# Altium footprint library myLIB.PcbLib: 144 footprints (part 3 of 9)
Each footprint in its own frame and in the unit in brackets; x right, y up, seen from the top. Pads: shape width x height; smd on the part's side, far side on the other; paste and mask are expansions set on the pad; w line width, h text height; cw(c..) or ccw(c..) is an arc to the next point about the centre after c.
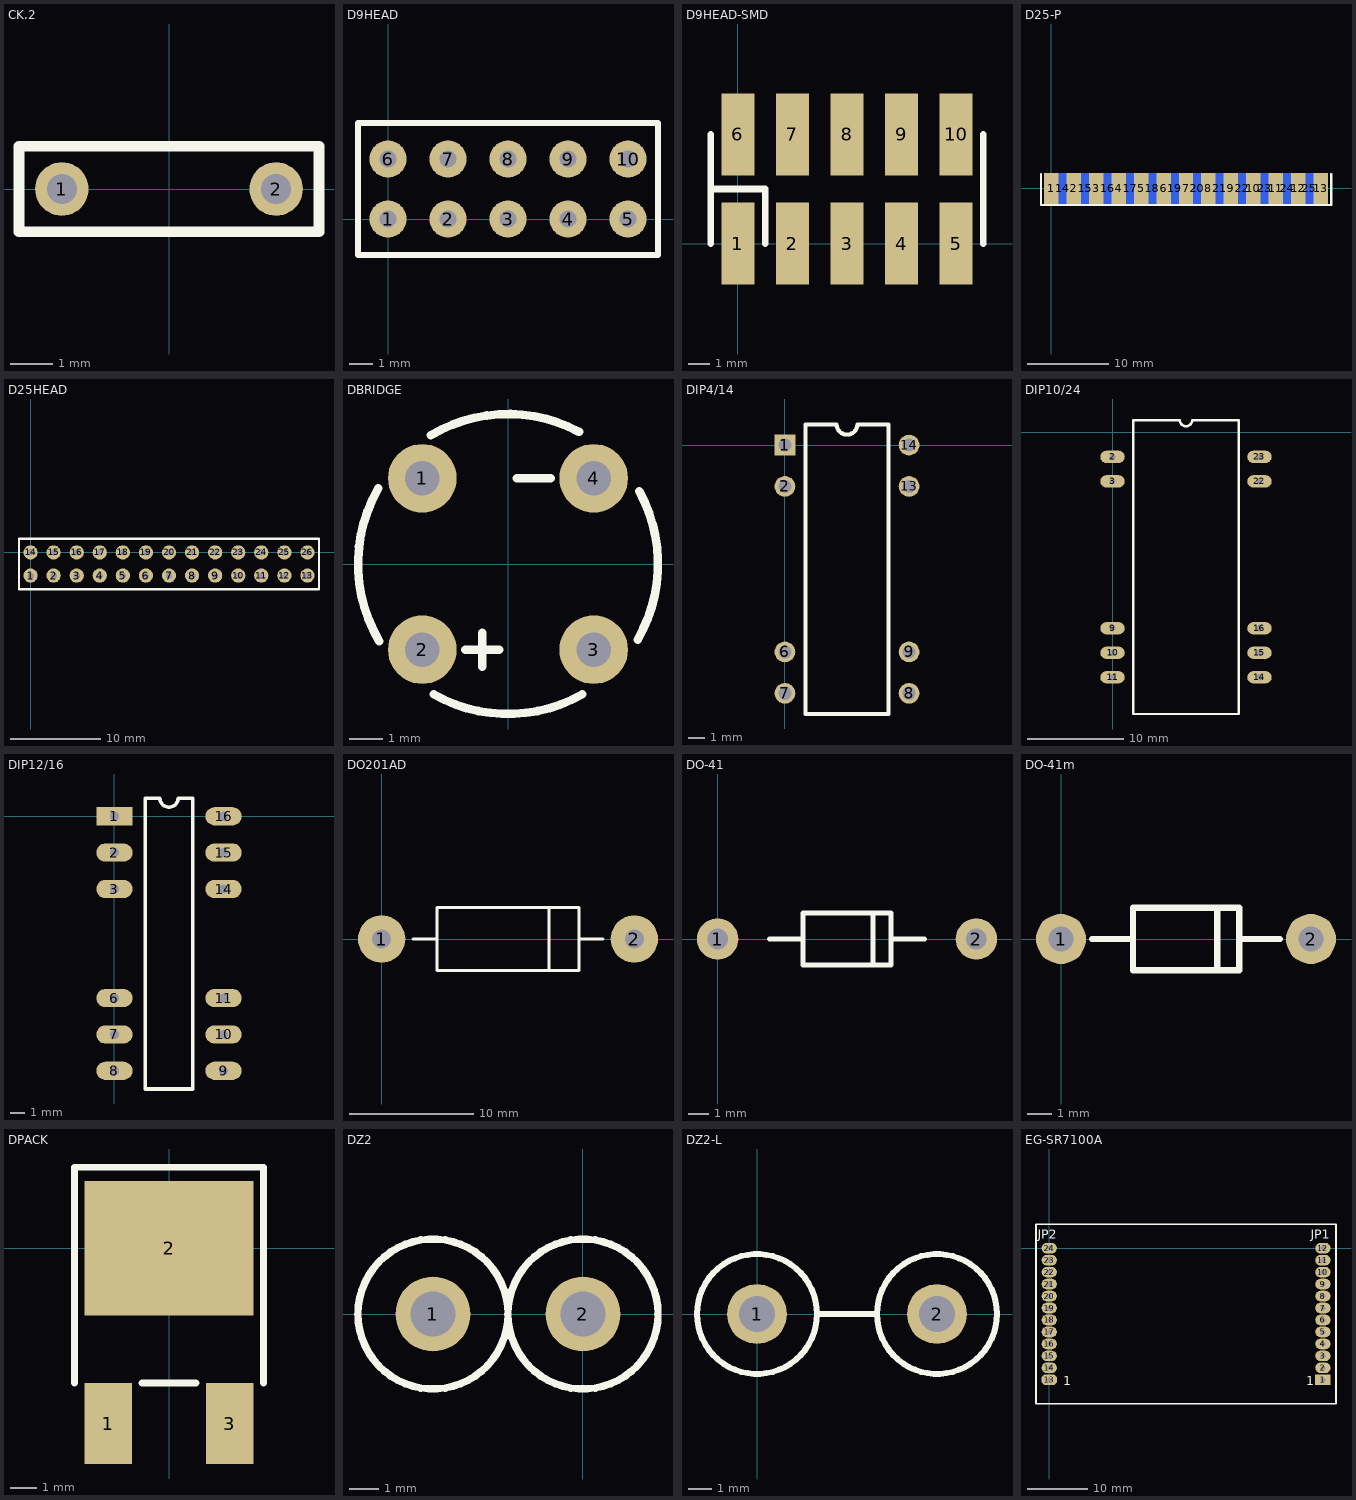
[diagram p2: the footprints below, top view; thin cyan lines are the x and y axes]

## CK.2 [mil]
pads (2):
  round 50 hole 28: 1(-100,0) 2(100,0)
TopOverlay:
  lines w10: -140,-40 -140,40 140,40 140,-40 -140,-40

## D9HEAD [mil]
pads (10):
  round 62 hole 28: 1(0,0) 2(100,0) 3(200,0) 4(300,0) 5(400,0) 6(0,100) 7(100,100) 8(200,100) 9(300,100) 10(400,100)
TopOverlay:
  lines w10: -50,-60 450,-60 450,160 -50,160 -50,-60

## D9HEAD-SMD [mil]
pads (10):
  rect 60x150 smd: 1(0,0) 2(100,0) 3(200,0) 4(300,0) 5(400,0) 6(0,200) 7(100,200) 8(200,200) 9(300,200) 10(400,200)
TopOverlay:
  lines w12: -50,0 -50,200 ; -50,100 50,100 50,0 ; 450,0 450,200

## D25-P [mil]
pads (25):
  rect 70x150 smd: 1(0,0) 2(109,0) 3(218,0) 4(327,0) 5(436,0) 6(545,0) 7(654,0) 8(763,0) 9(872,0) 10(981,0) 11(1090,0) 12(1199,0) 13(1308,0)
  rect 70x150 smd far side: 14(55,0) 15(164,0) 16(273,0) 17(382,0) 18(491,0) 19(600,0) 20(709,0) 21(818,0) 22(927,0) 23(1036,0) 24(1145,0) 25(1254,0)
TopOverlay:
  lines w10: -50,70 -50,-80 1360,-80 1360,70

## D25HEAD [mil]
pads (26):
  round 62 hole 28: 1(0,-100) 2(100,-100) 3(200,-100) 4(300,-100) 5(400,-100) 6(500,-100) 7(600,-100) 8(700,-100) 9(800,-100) 10(900,-100) 11(1000,-100) 12(1100,-100) 13(1200,-100) 14(0,0) 15(100,0) 16(200,0) 17(300,0) 18(400,0) 19(500,0) 20(600,0) 21(700,0) 22(800,0) 23(900,0) 24(1000,0) 25(1100,0) 26(1200,0)
TopOverlay:
  lines w10: -50,-160 -50,60 1250,60 1250,-160 -50,-160

## DBRIDGE [mil]
pads (4):
  round 80 hole 40: 1(-100,100) 2(-100,-100) 3(100,-100) 4(100,100)
TopOverlay:
  lines w10: -151.16,88.18 ccw(c0,0) -150.06,-90.04 ; -90.04,150.06 cw(c0,0) 82.97,154.08 ; -86.82,-151.94 ccw(c0,0) 86.82,-151.94 ; -50,-100 -10,-100 ; -30,-120 -30,-80 ; 10,100 50,100 ; 151.16,-88.18 ccw(c0,0) 152.98,84.99

## DIP4/14 [mil]
pads (8):
  rect 50x50 hole 32: 1(0,0)
  round 50 hole 32: 2(0,-100) 6(0,-500) 7(0,-600) 8(300,-600) 9(300,-500) 13(300,-100) 14(300,0)
TopOverlay:
  lines w10: 50,-650 50,50 125,50 ccw(c150,50) 175,50 250,50 250,-650 50,-650

## DIP10/24 [mil]
pads (10):
  oval 100x50 hole 25: 2(0,-100) 3(0,-200) 9(0,-800) 10(0,-900) 11(0,-1000) 14(600,-1000) 15(600,-900) 16(600,-800) 22(600,-200) 23(600,-100)
TopOverlay:
  lines w10: 85,-1150 515,-1150 515,50 325,50 cw(c300,50) 275,50 85,50 85,-1150

## DIP12/16 [mil]
pads (12):
  rect 100x50 hole 25: 1(0,0)
  oval 100x50 hole 25: 2(0,-100) 3(0,-200) 6(0,-500) 7(0,-600) 8(0,-700) 9(300,-700) 10(300,-600) 11(300,-500) 14(300,-200) 15(300,-100) 16(300,0)
TopOverlay:
  lines w10: 85,-750 85,50 125,50 ccw(c150,50) 175,50 215,50 215,-750 85,-750

## DO201AD [mil]
pads (2):
  round 150 hole 60: 1(0,0) 2(800,0)
TopOverlay:
  lines w10: 100,0 175,0 ; 530,-100 530,100 ; 625,0 700,0 ; 175,0 175,100 625,100 625,-100 175,-100 175,0

## DO-41 [mil]
pads (2):
  round 80 hole 40: 1(0,0) 2(500,0)
TopOverlay:
  lines w10: 100,0 165,0 ; 300,-50 300,50 ; 335,0 400,0 ; 165,0 165,-50 335,-50 335,50 165,50 165,0

## DO-41m [mil]
pads (2):
  round 80 hole 40: 1(0,0) 2(400,0)
TopOverlay:
  lines w10: 50,0 115,0 ; 250,-50 250,50 ; 285,0 350,0 ; 115,0 115,-50 285,-50 285,50 115,50 115,0

## DPACK [mil]
pads (3):
  rect 70x120 smd: 1(-90,-260) 3(90,-260)
  rect 250x200 smd: 2(0,0)
TopOverlay:
  lines w10: -140,-200 -140,120 140,120 140,-200 ; -40,-200 40,-200

## DZ2 [mil]
pads (2):
  round 100 hole 60: 1(-200,0) 2(0,0)
TopOverlay:
  circle w10: c0,0 r100
  circle w10: c-200,0 r100

## DZ2-L [mil]
pads (2):
  round 100 hole 60: 1(0,0) 2(300,0)
TopOverlay:
  circle w10: c300,0 r100
  circle w10: c0,0 r100
  lines w10: 100,0 200,0

## EG-SR7100A [mil]
pads (24):
  rect 100x70 hole 32: 1(1799.21,-866.14)
  oval 100x70 hole 32: 2(1799.21,-787.4) 3(1799.21,-708.66) 4(1799.21,-629.92) 5(1799.21,-551.18) 6(1799.21,-472.44) 7(1799.21,-393.7) 8(1799.21,-314.96) 9(1799.21,-236.22) 10(1799.21,-157.48) 11(1799.21,-78.74) 12(1799.21,0) 14(0,-787.4) 15(0,-708.66) 16(0,-629.92) 17(0,-551.18) 18(0,-472.44) 19(0,-393.7) 20(0,-314.96) 21(0,-236.22) 22(0,-157.48) 23(0,-78.74) 24(0,0)
  oct 100x70 hole 32: 13(0,-866.14)
TopOverlay:
  lines w10: -87,157 -87,-1023.62 1885.83,-1023.62 1885.83,157.48 -86.61,157.48
  text "JP2" at -77,62 h60
  text "1" at 91,-901 h60
  text "1" at 1691,-901 h60
  text "JP1" at 1721,62 h60